# Altium footprint library CAP-TH_BD5.0-P2.00-D0.5-FD-1.PcbLib: 1 footprints
Each footprint in its own frame and in the unit in brackets; x right, y up, seen from the top. Pads: shape width x height; smd on the part's side, far side on the other; paste and mask are expansions set on the pad; w line width, h text height; cw(c..) or ccw(c..) is an arc to the next point about the centre after c.
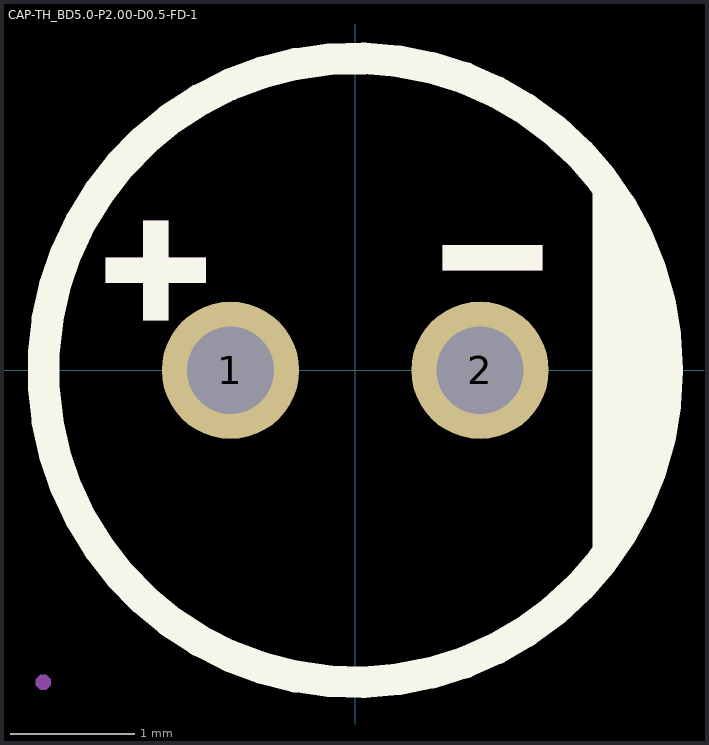
[diagram p0: the footprint, top view; thin cyan lines are the x and y axes]

## CAP-TH_BD5.0-P2.00-D0.5-FD-1 [mm]
pads (2):
  round 1.1 hole 0.7 paste+0 mask+0.05: 1(-1,0) 2(1,0)
Top Overlay:
  circle w0.254: c0,0 r2.5
  region: 1.905,1.651 1.905,-1.524 1.911,-1.518 2.061,-1.368 2.296,-1.017 2.458,-0.626 2.54,-0.211 2.54,0 2.54,0.171 2.54,0.341 2.473,0.676 2.343,0.992 2.153,1.276 2.032,1.397
  region: 0.8,1 1.5,1 1.5,0.8 0.7,0.8 0.7,1
  region: -1.9,0.9 -1.2,0.9 -1.2,0.7 -2,0.7 -2,0.9
  region: -1.7,0.5 -1.7,1.2 -1.5,1.2 -1.5,0.4 -1.7,0.4
Mechanical 6:
  region: -1.9,0.9 -1.2,0.9 -1.2,0.7 -2,0.7 -2,0.9
  region: -1.7,0.5 -1.7,1.2 -1.5,1.2 -1.5,0.4 -1.7,0.4
  region: 0.8,1 1.5,1 1.5,0.8 0.7,0.8 0.7,1
Mechanical 15:
  region: 1.25,0 1.25,-0.05 1.212,-0.142 1.142,-0.212 1.05,-0.25 0.95,-0.25 0.858,-0.212 0.788,-0.142 0.75,-0.05 0.75,0 0.75,0.05 0.788,0.142 0.858,0.212 0.95,0.25 1.05,0.25 1.142,0.212 1.212,0.142 1.25,0.05 1.25,0
  region: -0.75,0 -0.75,-0.05 -0.788,-0.142 -0.858,-0.212 -0.95,-0.25 -1.05,-0.25 -1.142,-0.212 -1.212,-0.142 -1.25,-0.05 -1.25,0 -1.25,0.05 -1.212,0.142 -1.142,0.212 -1.05,0.25 -0.95,0.25 -0.858,0.212 -0.788,0.142 -0.75,0.05 -0.75,0
  region: -2.44,-2.5 -2.44,-2.525 -2.475,-2.56 -2.525,-2.56 -2.56,-2.525 -2.56,-2.5 -2.56,-2.475 -2.525,-2.44 -2.475,-2.44 -2.44,-2.475 -2.44,-2.5
  lines w0.051: -2.5,0 cw(c0,0) 0,2.5 cw(c0,0) 2.5,0 cw(c0,0) 0,-2.5 cw(c0,0) -2.5,0